# Altium footprint library STM32L011F4U6TR.PcbLib: 3 footprints
Each footprint in its own frame and in the unit in brackets; x right, y up, seen from the top. Pads: shape width x height; smd on the part's side, far side on the other; paste and mask are expansions set on the pad; w line width, h text height; cw(c..) or ccw(c..) is an arc to the next point about the centre after c.
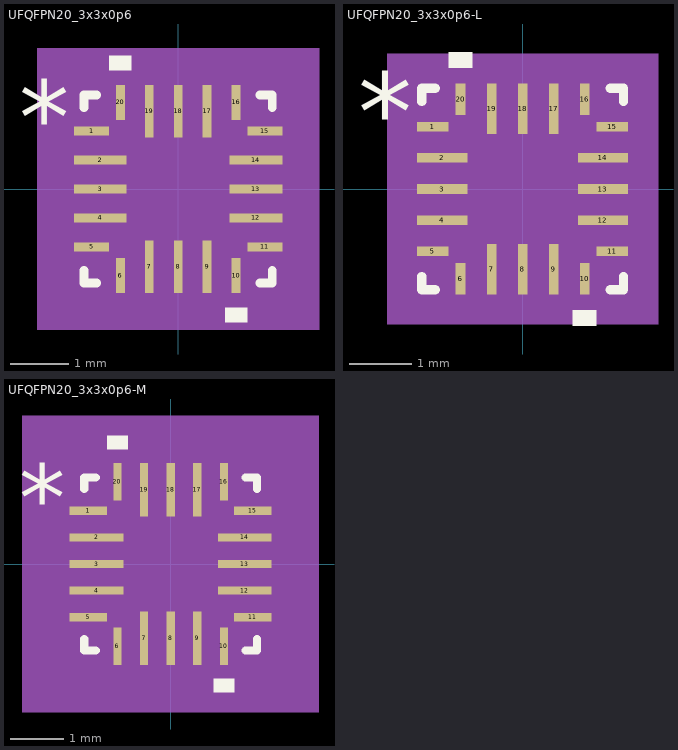
[diagram p0: the footprints below, top view; thin cyan lines are the x and y axes]

## UFQFPN20_3x3x0p6 [mm]
pads (20):
  rect 0.605x0.153 smd paste+0 mask+0: 1(-1.496,1) 5(-1.496,-1) 11(1.496,-1) 15(1.496,1)
  rect 0.91x0.153 smd paste+0 mask+0: 2(-1.344,0.5) 3(-1.344,0) 4(-1.344,-0.5) 12(1.344,-0.5) 13(1.344,0) 14(1.344,0.5)
  rect 0.153x0.605 smd paste+0 mask+0: 6(-1,-1.496) 10(1,-1.496) 16(1,1.496) 20(-1,1.496)
  rect 0.153x0.91 smd paste+0 mask+0: 7(-0.5,-1.344) 8(0,-1.344) 9(0.5,-1.344) 17(0.5,1.344) 18(0,1.344) 19(-0.5,1.344)
Top Overlay:
  region: 1.191,-2.053 0.81,-2.053 0.81,-2.307 1.191,-2.307
  region: -0.81,2.053 -1.191,2.053 -1.191,2.307 -0.81,2.307
  lines w0.152: -1.626,-1.409 -1.626,-1.626 -1.409,-1.626 ; -1.626,1.409 -1.626,1.626 -1.409,1.626 ; 1.409,-1.626 1.626,-1.626 1.626,-1.409 ; 1.409,1.626 1.626,1.626 1.626,1.409
  text "*" at -2.751,0.615 h1.27
Mechanical 5:
  region: 2.434,-2.434 -2.434,-2.434 -2.434,2.434 2.434,2.434
Mechanical 13:
  lines w0.025: -1.499,0.229 -0.229,1.499 ; -1.499,-1.499 1.499,-1.499 ; -1.499,-1.499 -1.499,1.499 ; -1.499,-1.499 -1.499,-1.499 ; -1.499,-1.102 -1.499,-0.898 ; -1.499,-1.102 -1.499,-0.898 ; -1.499,-1.102 -1.499,-1.102 ; -1.499,-0.898 -1.499,-0.898 ; -1.499,-0.602 -1.499,-0.398 ; -1.499,-0.602 -1.499,-0.398 ; -1.499,-0.602 -1.499,-0.602 ; -1.499,-0.398 -1.499,-0.398 ; -1.499,-0.102 -1.499,0.102 ; -1.499,-0.102 -1.499,0.102 ; -1.499,-0.102 -1.499,-0.102 ; -1.499,0.102 -1.499,0.102 ; -1.499,0.398 -1.499,0.602 ; -1.499,0.398 -1.499,0.602 ; -1.499,0.398 -1.499,0.398 ; -1.499,0.602 -1.499,0.602 ; -1.499,0.898 -1.499,1.102 ; -1.499,0.898 -1.499,1.102 ; -1.499,0.898 -1.499,0.898 ; -1.499,1.102 -1.499,1.102 ; -1.499,1.499 1.499,1.499 ; -1.499,1.499 -1.499,1.499 ; -1.102,-1.499 -0.898,-1.499 ; -1.102,-1.499 -1.102,-1.499 ; -1.102,-1.499 -0.898,-1.499 ; -1.102,1.499 -0.898,1.499 ; -1.102,1.499 -0.898,1.499 ; -1.102,1.499 -1.102,1.499 ; -0.898,-1.499 -0.898,-1.499 ; -0.898,1.499 -0.898,1.499 ; -0.602,-1.499 -0.398,-1.499 ; -0.602,-1.499 -0.602,-1.499 ; -0.602,-1.499 -0.398,-1.499 ; -0.602,1.499 -0.398,1.499 ; -0.602,1.499 -0.398,1.499 ; -0.602,1.499 -0.602,1.499 ; -0.398,-1.499 -0.398,-1.499 ; -0.398,1.499 -0.398,1.499 ; -0.102,-1.499 0.102,-1.499 ; -0.102,-1.499 -0.102,-1.499 ; -0.102,-1.499 0.102,-1.499 ; -0.102,1.499 0.102,1.499 ; -0.102,1.499 0.102,1.499 ; -0.102,1.499 -0.102,1.499 ; 0.102,-1.499 0.102,-1.499 ; 0.102,1.499 0.102,1.499 ; 0.398,-1.499 0.602,-1.499 ; 0.398,-1.499 0.398,-1.499 ; 0.398,-1.499 0.602,-1.499 ; 0.398,1.499 0.602,1.499 ; 0.398,1.499 0.602,1.499 ; 0.398,1.499 0.398,1.499 ; 0.602,-1.499 0.602,-1.499 ; 0.602,1.499 0.602,1.499 ; 0.898,-1.499 1.102,-1.499 ; 0.898,-1.499 0.898,-1.499 ; 0.898,-1.499 1.102,-1.499 ; 0.898,1.499 1.102,1.499 ; 0.898,1.499 1.102,1.499 ; 0.898,1.499 0.898,1.499 ; 1.102,-1.499 1.102,-1.499 ; 1.102,1.499 1.102,1.499 ; 1.499,-1.499 1.499,-1.499 ; 1.499,-1.499 1.499,1.499 ; 1.499,-1.102 1.499,-0.898 ; 1.499,-1.102 1.499,-1.102 ; 1.499,-1.102 1.499,-0.898 ; 1.499,-0.898 1.499,-0.898 ; 1.499,-0.602 1.499,-0.398 ; 1.499,-0.602 1.499,-0.602 ; 1.499,-0.602 1.499,-0.398 ; 1.499,-0.398 1.499,-0.398 ; 1.499,-0.102 1.499,0.102 ; 1.499,-0.102 1.499,-0.102 ; 1.499,-0.102 1.499,0.102 ; 1.499,0.102 1.499,0.102 ; 1.499,0.398 1.499,0.602 ; 1.499,0.398 1.499,0.398 ; 1.499,0.398 1.499,0.602 ; 1.499,0.602 1.499,0.602 ; 1.499,0.898 1.499,1.102 ; 1.499,0.898 1.499,0.898 ; 1.499,0.898 1.499,1.102 ; 1.499,1.102 1.499,1.102 ; 1.499,1.499 1.499,1.499
  text "*" at -1.206,0.615 h1.27
Mechanical 15:
  region: -1.25,-1.753 -1.753,-1.753 -1.753,-1.25 -2.053,-1.25 -2.053,1.25 -1.753,1.25 -1.753,1.753 -1.25,1.753 -1.25,2.053 1.25,2.053 1.25,1.753 1.753,1.753 1.753,1.25 2.053,1.25 2.053,-1.25 1.753,-1.25 1.753,-1.753 1.25,-1.753 1.25,-2.053 -1.25,-2.053
  lines w0.152: -2.053,-1.25 -1.753,-1.25 -1.753,-1.753 -1.25,-1.753 -1.25,-2.053 1.25,-2.053 1.25,-1.753 1.753,-1.753 1.753,-1.25 2.053,-1.25 2.053,1.25 1.753,1.25 1.753,1.753 1.25,1.753 1.25,2.053 -1.25,2.053 -1.25,1.753 -1.753,1.753 -1.753,1.25 -2.053,1.25 -2.053,-1.25
3D body "UFQFPN20_3x3x0p6.step": height 0.61, standoff 0, extent -1.499,-1.499 1.499,1.499

## UFQFPN20_3x3x0p6-L [mm]
pads (20):
  rect 0.505x0.153 smd paste+0 mask+0: 1(-1.446,1) 5(-1.446,-1) 11(1.446,-1) 15(1.446,1)
  rect 0.81x0.153 smd paste+0 mask+0: 2(-1.294,0.5) 3(-1.294,0) 4(-1.294,-0.5) 12(1.294,-0.5) 13(1.294,0) 14(1.294,0.5)
  rect 0.153x0.505 smd paste+0 mask+0: 6(-1,-1.446) 10(1,-1.446) 16(1,1.446) 20(-1,1.446)
  rect 0.153x0.81 smd paste+0 mask+0: 7(-0.5,-1.294) 8(0,-1.294) 9(0.5,-1.294) 17(0.5,1.294) 18(0,1.294) 19(-0.5,1.294)
Top Overlay:
  region: -0.81,1.953 -1.191,1.953 -1.191,2.207 -0.81,2.207
  region: 1.191,-1.953 0.81,-1.953 0.81,-2.207 1.191,-2.207
  lines w0.152: -1.626,-1.409 -1.626,-1.626 -1.409,-1.626 ; -1.626,1.409 -1.626,1.626 -1.409,1.626 ; 1.409,-1.626 1.626,-1.626 1.626,-1.409 ; 1.409,1.626 1.626,1.626 1.626,1.409
  text "*" at -2.651,0.615 h1.27
Mechanical 5:
  region: 2.181,-2.181 -2.181,-2.181 -2.181,2.181 2.181,2.181
Mechanical 13:
  lines w0.025: -1.499,0.229 -0.229,1.499 ; -1.499,-1.499 -1.499,1.499 1.499,1.499 1.499,-1.499 -1.499,-1.499 ; -1.499,-1.102 -1.499,-0.898 -1.499,-1.102 ; -1.499,-0.602 -1.499,-0.398 -1.499,-0.602 ; -1.499,-0.102 -1.499,0.102 -1.499,-0.102 ; -1.499,0.398 -1.499,0.602 -1.499,0.398 ; -1.499,0.898 -1.499,1.102 -1.499,0.898 ; -1.102,-1.499 -0.898,-1.499 -1.102,-1.499 ; -1.102,1.499 -0.898,1.499 -1.102,1.499 ; -0.602,-1.499 -0.398,-1.499 -0.602,-1.499 ; -0.602,1.499 -0.398,1.499 -0.602,1.499 ; -0.102,-1.499 0.102,-1.499 -0.102,-1.499 ; -0.102,1.499 0.102,1.499 -0.102,1.499 ; 0.398,-1.499 0.602,-1.499 0.398,-1.499 ; 0.398,1.499 0.602,1.499 0.398,1.499 ; 0.898,-1.499 1.102,-1.499 0.898,-1.499 ; 0.898,1.499 1.102,1.499 0.898,1.499 ; 1.499,-1.102 1.499,-0.898 1.499,-1.102 ; 1.499,-0.602 1.499,-0.398 1.499,-0.602 ; 1.499,-0.102 1.499,0.102 1.499,-0.102 ; 1.499,0.398 1.499,0.602 1.499,0.398 ; 1.499,0.898 1.499,1.102 1.499,0.898
  text "*" at -1.206,0.615 h1.27
Mechanical 15:
  region: -1.25,-1.6 -1.6,-1.6 -1.6,-1.25 -1.8,-1.25 -1.8,1.25 -1.6,1.25 -1.6,1.6 -1.25,1.6 -1.25,1.8 1.25,1.8 1.25,1.6 1.6,1.6 1.6,1.25 1.8,1.25 1.8,-1.25 1.6,-1.25 1.6,-1.6 1.25,-1.6 1.25,-1.8 -1.25,-1.8
  lines w0.152: -1.8,-1.25 -1.8,1.25 -1.6,1.25 -1.6,1.6 -1.25,1.6 -1.25,1.8 1.25,1.8 1.25,1.6 1.6,1.6 1.6,1.25 1.8,1.25 1.8,-1.25 1.6,-1.25 1.6,-1.6 1.25,-1.6 1.25,-1.8 -1.25,-1.8 -1.25,-1.6 -1.6,-1.6 -1.6,-1.25 -1.8,-1.25
3D body "UFQFPN20_3x3x0p6.step": height 0.61, standoff 0, extent -1.499,-1.499 1.499,1.499

## UFQFPN20_3x3x0p6-M [mm]
pads (20):
  rect 0.705x0.153 smd paste+0 mask+0: 1(-1.546,1) 5(-1.546,-1) 11(1.546,-1) 15(1.546,1)
  rect 1.01x0.153 smd paste+0 mask+0: 2(-1.394,0.5) 3(-1.394,0) 4(-1.394,-0.5) 12(1.394,-0.5) 13(1.394,0) 14(1.394,0.5)
  rect 0.153x0.705 smd paste+0 mask+0: 6(-1,-1.546) 10(1,-1.546) 16(1,1.546) 20(-1,1.546)
  rect 0.153x1.01 smd paste+0 mask+0: 7(-0.5,-1.394) 8(0,-1.394) 9(0.5,-1.394) 17(0.5,1.394) 18(0,1.394) 19(-0.5,1.394)
Top Overlay:
  region: -0.81,2.153 -1.191,2.153 -1.191,2.407 -0.81,2.407
  region: 1.191,-2.153 0.81,-2.153 0.81,-2.407 1.191,-2.407
  lines w0.152: -1.626,-1.409 -1.626,-1.626 -1.409,-1.626 ; -1.626,1.409 -1.626,1.626 -1.409,1.626 ; 1.409,-1.626 1.626,-1.626 1.626,-1.409 ; 1.409,1.626 1.626,1.626 1.626,1.409
  text "*" at -2.851,0.615 h1.27
Mechanical 5:
  region: 2.788,-2.788 -2.788,-2.788 -2.788,2.788 2.788,2.788
Mechanical 13:
  lines w0.025: -1.499,0.229 -0.229,1.499 ; -1.499,-1.499 -1.499,1.499 1.499,1.499 1.499,-1.499 -1.499,-1.499 ; -1.499,-1.102 -1.499,-0.898 -1.499,-1.102 ; -1.499,-0.602 -1.499,-0.398 -1.499,-0.602 ; -1.499,-0.102 -1.499,0.102 -1.499,-0.102 ; -1.499,0.398 -1.499,0.602 -1.499,0.398 ; -1.499,0.898 -1.499,1.102 -1.499,0.898 ; -1.102,-1.499 -0.898,-1.499 -1.102,-1.499 ; -1.102,1.499 -0.898,1.499 -1.102,1.499 ; -0.602,-1.499 -0.398,-1.499 -0.602,-1.499 ; -0.602,1.499 -0.398,1.499 -0.602,1.499 ; -0.102,-1.499 0.102,-1.499 -0.102,-1.499 ; -0.102,1.499 0.102,1.499 -0.102,1.499 ; 0.398,-1.499 0.602,-1.499 0.398,-1.499 ; 0.398,1.499 0.602,1.499 0.398,1.499 ; 0.898,-1.499 1.102,-1.499 0.898,-1.499 ; 0.898,1.499 1.102,1.499 0.898,1.499 ; 1.499,-1.102 1.499,-0.898 1.499,-1.102 ; 1.499,-0.602 1.499,-0.398 1.499,-0.602 ; 1.499,-0.102 1.499,0.102 1.499,-0.102 ; 1.499,0.398 1.499,0.602 1.499,0.398 ; 1.499,0.898 1.499,1.102 1.499,0.898
  text "*" at -1.206,0.615 h1.27
Mechanical 15:
  region: -1.25,-2.007 -2.007,-2.007 -2.007,-1.25 -2.407,-1.25 -2.407,1.25 -2.007,1.25 -2.007,2.007 -1.25,2.007 -1.25,2.407 1.25,2.407 1.25,2.007 2.007,2.007 2.007,1.25 2.407,1.25 2.407,-1.25 2.007,-1.25 2.007,-2.007 1.25,-2.007 1.25,-2.407 -1.25,-2.407
  lines w0.152: -2.407,-1.25 -2.407,1.25 -2.007,1.25 -2.007,2.007 -1.25,2.007 -1.25,2.407 1.25,2.407 1.25,2.007 2.007,2.007 2.007,1.25 2.407,1.25 2.407,-1.25 2.007,-1.25 2.007,-2.007 1.25,-2.007 1.25,-2.407 -1.25,-2.407 -1.25,-2.007 -2.007,-2.007 -2.007,-1.25 -2.407,-1.25
3D body "UFQFPN20_3x3x0p6.step": height 0.61, standoff 0, extent -1.499,-1.499 1.499,1.499